# Altium footprint library MDBT50_PCBLIB_210706.PcbLib: 1 footprints
Each footprint in its own frame and in the unit in brackets; x right, y up, seen from the top. Pads: shape width x height; smd on the part's side, far side on the other; paste and mask are expansions set on the pad; w line width, h text height; cw(c..) or ccw(c..) is an arc to the next point about the centre after c.
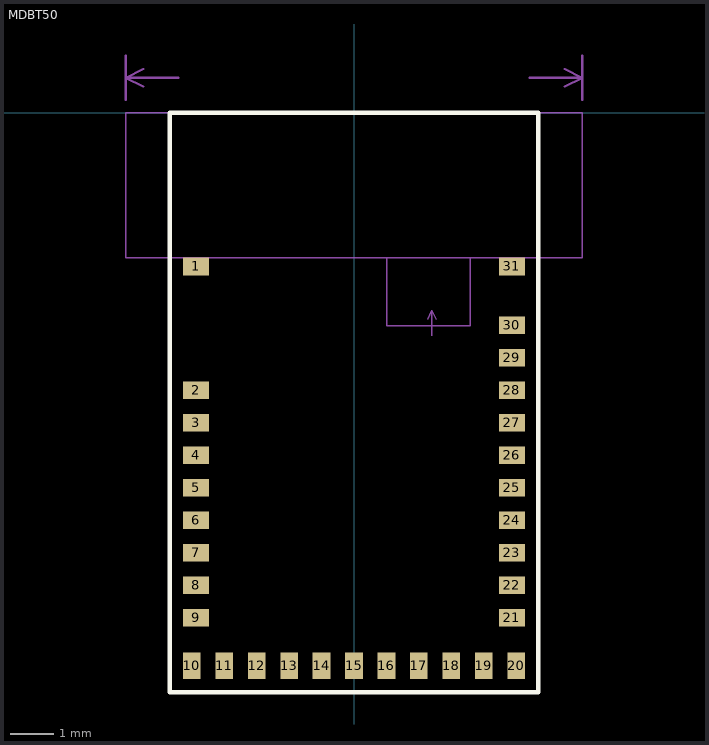
[diagram p0: the footprint, top view; thin cyan lines are the x and y axes]

## MDBT50 [mm]
pads (31):
  rect 0.6x0.4 smd mask+0: 1(-3.6,-3.5) 2(-3.6,-6.32) 3(-3.6,-7.06) 4(-3.6,-7.8) 5(-3.6,-8.54) 6(-3.6,-9.28) 7(-3.6,-10.02) 8(-3.6,-10.76) 9(-3.6,-11.5) 21(3.6,-11.5) 22(3.6,-10.76) 23(3.6,-10.02) 24(3.6,-9.28) 25(3.6,-8.54) 26(3.6,-7.8) 27(3.6,-7.06) 28(3.6,-6.32) 29(3.6,-5.58) 30(3.6,-4.84) 31(3.6,-3.5)
  rect 0.4x0.6 smd mask+0: 10(-3.7,-12.6) 11(-2.96,-12.6) 12(-2.22,-12.6) 13(-1.48,-12.6) 14(-0.74,-12.6) 15(0,-12.6) 16(0.74,-12.6) 17(1.48,-12.6) 18(2.22,-12.6) 19(2.96,-12.6) 20(3.7,-12.6)
TopOverlay:
  lines w0.1: -4.2,-13.2 -4.2,0 0,0 4.2,0 4.2,-13.2 -4.2,-13.2
Mechanical2:
  lines w0.03: -5.2,-3.3 5.2,-3.3 5.2,0 -5.2,0 -5.2,-3.3
  lines w0.05: -5.2,0.3 -5.2,1.3 ; -4.8,0.6 -5.2,0.8 ; -4.8,1 -5.2,0.8 ; -4,0.8 -5.2,0.8 ; 4,0.8 5.2,0.8 ; 4.8,0.6 5.2,0.8 ; 4.8,1 5.2,0.8 ; 5.2,0.3 5.2,1.3
  text "No ground pad" at -2.575,-1.75 h0.38
  text "as wide as possible" at -3.5,0.65 h0.38
Mechanical3:
  lines w0.03: 1.675,-4.7 1.775,-4.5 ; 1.775,-5.075 1.775,-4.5 ; 1.875,-4.7 1.775,-4.5 ; 0.75,-4.85 2.65,-4.85 2.65,-3.3 0.75,-3.3 0.75,-4.85
  text "Toplayer no ground pad" at -0.425,-5.3 h0.2